# EAGLE library part MCP6L92 (library Microchip)
10MHz, 850 uA, Dual Op Amp, Rail-to-Rail Input/Output
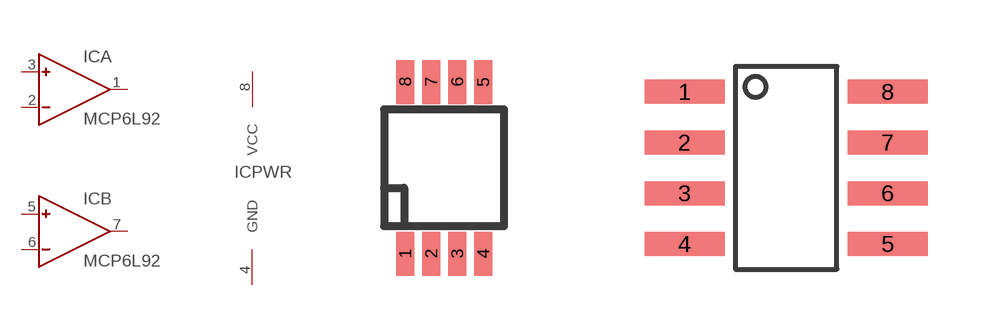
[diagram p38: symbol with the pads of MSOP8-MS; footprints MSOP8-MS, SOIC8-SN]

Designator prefix IC; gates A=OPAMP B=OPAMP PWR=PWR-GND

## MCP6L92MS  [MSOP8-MS]
1  A:OUT  out
2  A:IN-  in
3  A:IN+  in
4  PWR:GND
5  B:IN+  in
6  B:IN-  in
7  B:OUT  out
8  PWR:VCC

## MCP6L92SN  [SOIC8-SN]
Pads as for MSOP8-MS

## Footprint MSOP8-MS (pad centres in mm)
8-Lead Plastic Micro Small Outline Package (MSOP), Microchip package MS
smd 0.45 x 1.1: 1 -0.975,-2.15; 2 -0.325,-2.15; 3 0.325,-2.15; 4 0.975,-2.15; 5 0.975,2.15; 6 0.325,2.15; 7 -0.325,2.15; 8 -0.975,2.15

## Footprint SOIC8-SN (pad centres in mm)
8-Lead Plastic Small Outline (SN) - Narrow, 3.90 mm body (SOIC)
smd 2 x 0.6: 1 -2.54,1.905; 2 -2.54,0.635; 3 -2.54,-0.635; 4 -2.54,-1.905; 5 2.54,-1.905; 6 2.54,-0.635; 7 2.54,0.635; 8 2.54,1.905